# Altium footprint library passives.PCBLIB: 93 footprints (part 5 of 6)
Each footprint in its own frame and in the unit in brackets; x right, y up, seen from the top. Pads: shape width x height; smd on the part's side, far side on the other; paste and mask are expansions set on the pad; w line width, h text height; cw(c..) or ccw(c..) is an arc to the next point about the centre after c.
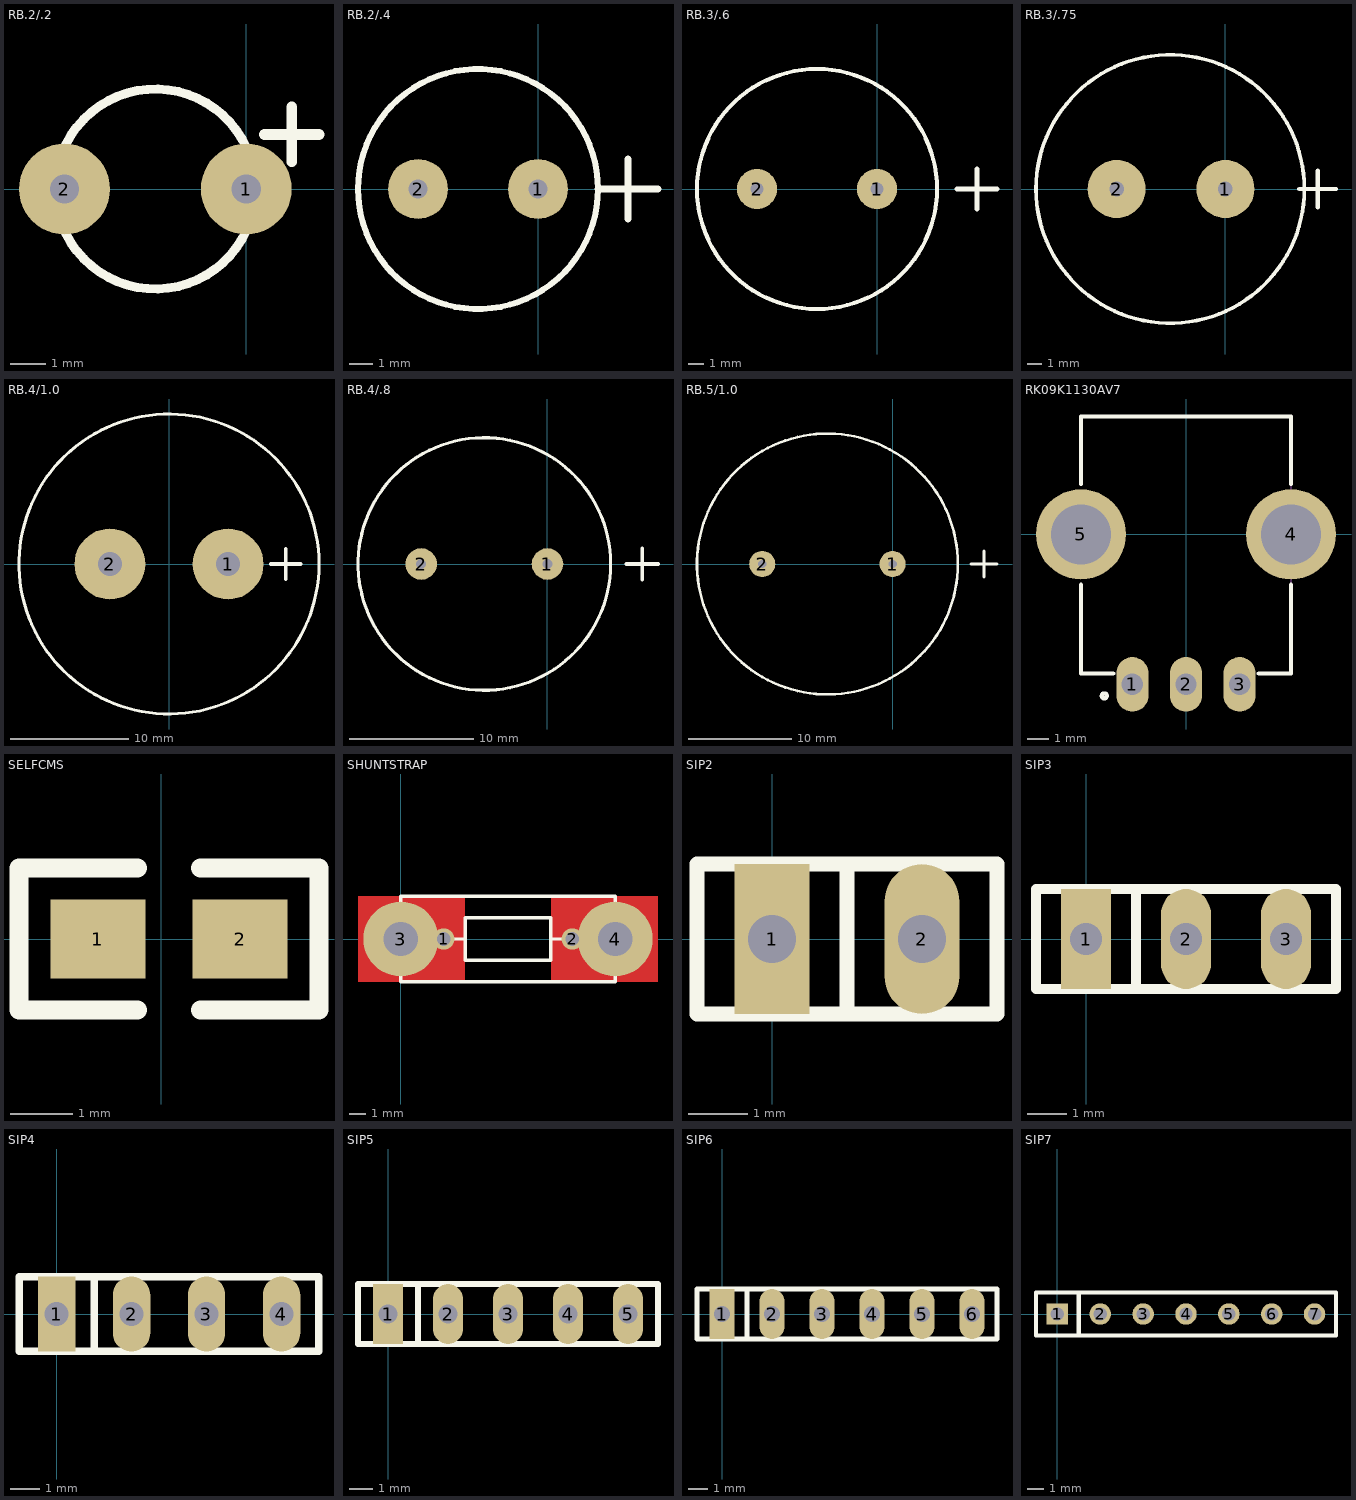
[diagram p4: the footprints below, top view; thin cyan lines are the x and y axes]

## RB.2/.2 [mil]
pads (2):
  round 100 hole 32: 1(0,0) 2(-200,0)
Top Overlay:
  circle w10: c-100,0 r110
  lines w12: 20,60 80,60 ; 50,30 50,60 50,90

## RB.2/.4 [mil]
pads (2):
  round 100 hole 32: 1(0,0) 2(-200,0)
Top Overlay:
  circle w10: c-100,0 r200
  lines w12: 100,0 200,0 ; 150,-50 150,50

## RB.3/.6 [mm]
pads (2):
  round 2.54 hole 0.8: 1(0,0) 2(-7.62,0)
Top Overlay:
  circle w0.254: c-3.81,0 r7.62
  lines w0.305: 5.08,0 7.62,0 ; 6.35,-1.27 6.35,1.27

## RB.3/.75 [mm]
pads (2):
  round 4 hole 1: 1(0,0) 2(-7.5,0)
Top Overlay:
  circle w0.254: c-3.81,0 r9.25
  lines w0.305: 5.08,0 7.62,0 ; 6.35,-1.27 6.35,1.27

## RB.4/1.0 [mm]
pads (2):
  round 6 hole 2: 1(5,0) 2(-5,0)
Top Overlay:
  circle w0.254: c0,0 r12.7
  lines w0.305: 8.62,0 11.16,0 ; 9.89,-1.27 9.89,1.27

## RB.4/.8 [mm]
pads (2):
  round 2.54 hole 0.8: 1(0,0) 2(-10.16,0)
Top Overlay:
  circle w0.254: c-5.08,0 r10.16
  lines w0.305: 6.35,0 8.89,0 ; 7.62,-1.27 7.62,1.27

## RB.5/1.0 [mm]
pads (2):
  round 2.54 hole 0.8: 1(0,0) 2(-12.7,0)
Top Overlay:
  circle w0.254: c-6.35,0 r12.7
  lines w0.305: 7.62,0 10.16,0 ; 8.89,-1.27 8.89,1.27

## RK09K1130AV7 [mm]
pads (5):
  oval 1.5x2.54 hole 1: 1(-2.5,-7) 2(0,-7) 3(2.5,-7)
  round 4.2 hole 2.8: 4(4.9,0) 5(-4.9,0)
Top Overlay:
  circle w0.2: c-3.814,-7.538 r0.114
  lines w0.2: -4.9,-2.35 -4.9,-6.5 -3.4,-6.5 ; -4.9,2.35 -4.9,5.5 4.9,5.5 4.9,2.35 ; 3.4,-6.5 4.9,-6.5 4.9,-2.35
Mechanical 13:
  lines w0: 4.9,-6.5 4.9,5.5
3D body "RK09K1130081.stp": height 10.2, standoff -13.5, extent -5.7,-7.15 5.7,5.5

## SELFCMS [mil]
pads (2):
  rect 60x50 smd: 1(-40,0) 2(50,0)
Top Overlay:
  lines w12: -15,-45 -90,-45 -90,45 -15,45 ; 25,-45 100,-45 100,45 25,45

## SHUNTSTRAP [mil]
pads (4):
  round 50 hole 32: 1(100,0) 2(400,0)
  round 175 hole 80: 3(0,0) 4(500,0)
Top Layer:
  rectangle: -100,-100 150,100
  rectangle: 350,-100 600,100
Top Overlay:
  lines w8: 100,0 150,0 ; 150,0 150,50 300,50 350,50 350,0 ; 150,0 150,-50 350,-50 350,0 ; 350,0 400,0 350,0 ; 0,-100 500,-100 500,100 0,100 0,0 0,-100

## SIP2 [mil]
pads (2):
  rect 50x100 hole 32: 1(0,0)
  oval 50x100 hole 32: 2(100,0)
Top Overlay:
  lines w10: 50,-50 50,50 ; -50,-50 -50,50 150,50 150,-50 -50,-50

## SIP3 [mil]
pads (3):
  rect 50x100 hole 32: 1(0,0)
  oval 50x100 hole 32: 2(100,0) 3(200,0)
Top Overlay:
  lines w10: 50,-50 50,50 ; -50,-50 -50,50 250,50 250,-50 -50,-50

## SIP4 [mil]
pads (4):
  rect 50x100 hole 32: 1(0,0)
  oval 50x100 hole 32: 2(100,0) 3(200,0) 4(300,0)
Top Overlay:
  lines w10: 50,-50 50,50 ; -50,-50 -50,50 350,50 350,-50 -50,-50

## SIP5 [mil]
pads (5):
  rect 50x100 hole 32: 1(0,0)
  oval 50x100 hole 32: 2(100,0) 3(200,0) 4(300,0) 5(400,0)
Top Overlay:
  lines w10: 50,-50 50,50 ; -50,-50 -50,50 450,50 450,-50 -50,-50

## SIP6 [mil]
pads (6):
  rect 50x100 hole 32: 1(0,0)
  oval 50x100 hole 32: 2(100,0) 3(200,0) 4(300,0) 5(400,0) 6(500,0)
Top Overlay:
  lines w10: 50,-50 50,50 ; -50,-50 550,-50 550,50 -50,50 -50,-50

## SIP7 [mm]
pads (7):
  rect 1.27x1.27 hole 0.8: 1(0,0)
  round 1.27 hole 0.8: 2(2.54,0) 3(5.08,0) 4(7.62,0) 5(10.16,0) 6(12.7,0) 7(15.24,0)
Top Overlay:
  lines w0.254: 1.27,-1.27 1.27,1.27 ; -1.27,-1.27 16.51,-1.27 16.51,1.27 -1.27,1.27 -1.27,-1.27